# EAGLE library part 632723300011 (library 632723100011_Eagle_WR-USB_rev20d)
WR-COM USB 3.1 Type C Receptacle Horizontal THT/SMT Kind Properties Durability:10 000 Mating cycles Connector Type:USB 3.1 Type C Gender:Receptacle Type:Horizontal General Information Operating Temperature:-40up to +105 °C Compliance:RoHS Electrical Properties Working Voltage:20V (DC) Withstanding Voltage:100V (AC) Contact Resistance:30 mΩ Material Properties Insulator Material:LCP Insulator Flammability Rating:UL94 V-0 Color:Black Contact Material:Brass Contact Plating:2µ” Gold over 30µ” Pd-Ni Contact Type:Stamped Shielding Material:Steel Shielding Plating:Matte Tin <https://www.we-online.com/catalog/media/o144501v209%20Family_WR-COM_632723x00011.jpg> Details see: https://www.we-online.com/catalog/en/COM_3_1_THR_SMT_TYPE_C_RECEPTACLE_HORIZONTAL/ Updated by Ella Wu 2020-08-05 2020 (C) Würth Elektronik
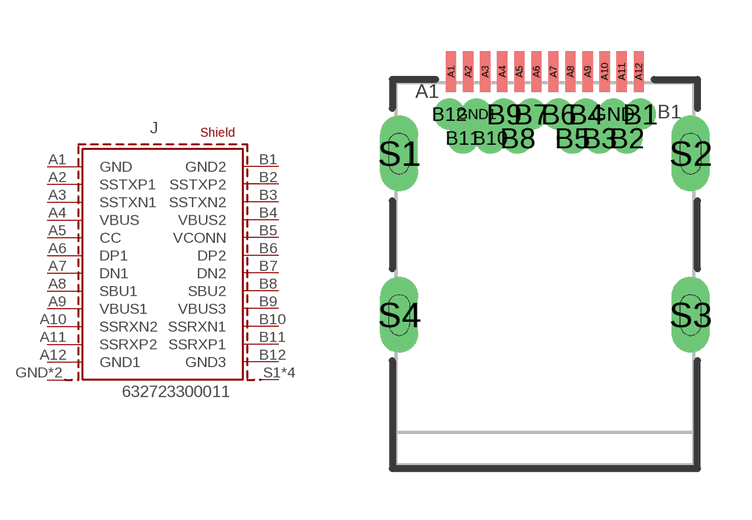
[diagram p9: symbol with the pads of 632723300011; footprint 632723300011]

Designator prefix J

## 632723300011 (APPLICATION: USB 3.1; DATASHEET-URL: https://www.we-online.com/catalog/datasheet/632723300011 .pdf; GERDER: Receptacle; INTERFACE-TYPE: Type C; IR1: 5A; MOUNT: THR; PACKAGING: Tape and Reel; PART-NUMBER: 632723300011; PINS: 24; TYPE: Horizontal; VALUE: 632723300011; WORKING-VOLTAGE: 20V(DC))  [632723300011]
A1  GND
A2  SSTXP1
A3  SSTXN1
A4  VBUS
A5  CC
A6  DP1
A7  DN1
A8  SBU1
A9  VBUS1
A10  SSRXN2
A11  SSRXP2
A12  GND1
B1  GND2
B2  SSTXP2
B3  SSTXN2
B4  VBUS2
B5  VCONN
B6  DP2
B7  DN2
B8  SBU2
B9  VBUS3
B10  SSRXN1
B11  SSRXP1
B12  GND3
GND  SHIELD
GND1  SHIELD
S1  SHIELD1
S2  SHIELD1
S3  SHIELD1
S4  SHIELD1

## Footprint 632723300011 (pad centres in mm)
WR-COM USB 3.1 Type C Receptacle Horizontal THT / SMT
smd 0.3 x 1.2: A1 -2.75,5.93; A2 -2.25,5.93; A3 -1.75,5.93; A4 -1.25,5.93; A5 -0.75,5.93; A6 -0.25,5.93; A7 0.25,5.93; A8 0.75,5.93; A9 1.25,5.93; A10 1.75,5.93; A11 2.25,5.93; A12 2.75,5.93
drill 0.4 pad 0.65: B1 2.8,4.68; B2 2.4,3.98; B3 1.6,3.98; B4 1.2,4.68; B5 0.8,3.98; B6 0.4,4.68; B7 -0.4,4.68; B8 -0.8,3.98; B9 -1.2,4.68; B10 -1.6,3.98; B11 -2.4,3.98; B12 -2.8,4.68; GND 2,4.68; GND1 -2,4.68
drill 0.6 pad 1 long: S1 -4.27,3.53; S2 4.27,3.53; S3 4.27,-1.2; S4 -4.27,-1.2